# Altium footprint library Go With The Wind.PcbLib: 32 footprints (part 1 of 2)
Each footprint in its own frame and in the unit in brackets; x right, y up, seen from the top. Pads: shape width x height; smd on the part's side, far side on the other; paste and mask are expansions set on the pad; w line width, h text height; cw(c..) or ccw(c..) is an arc to the next point about the centre after c.
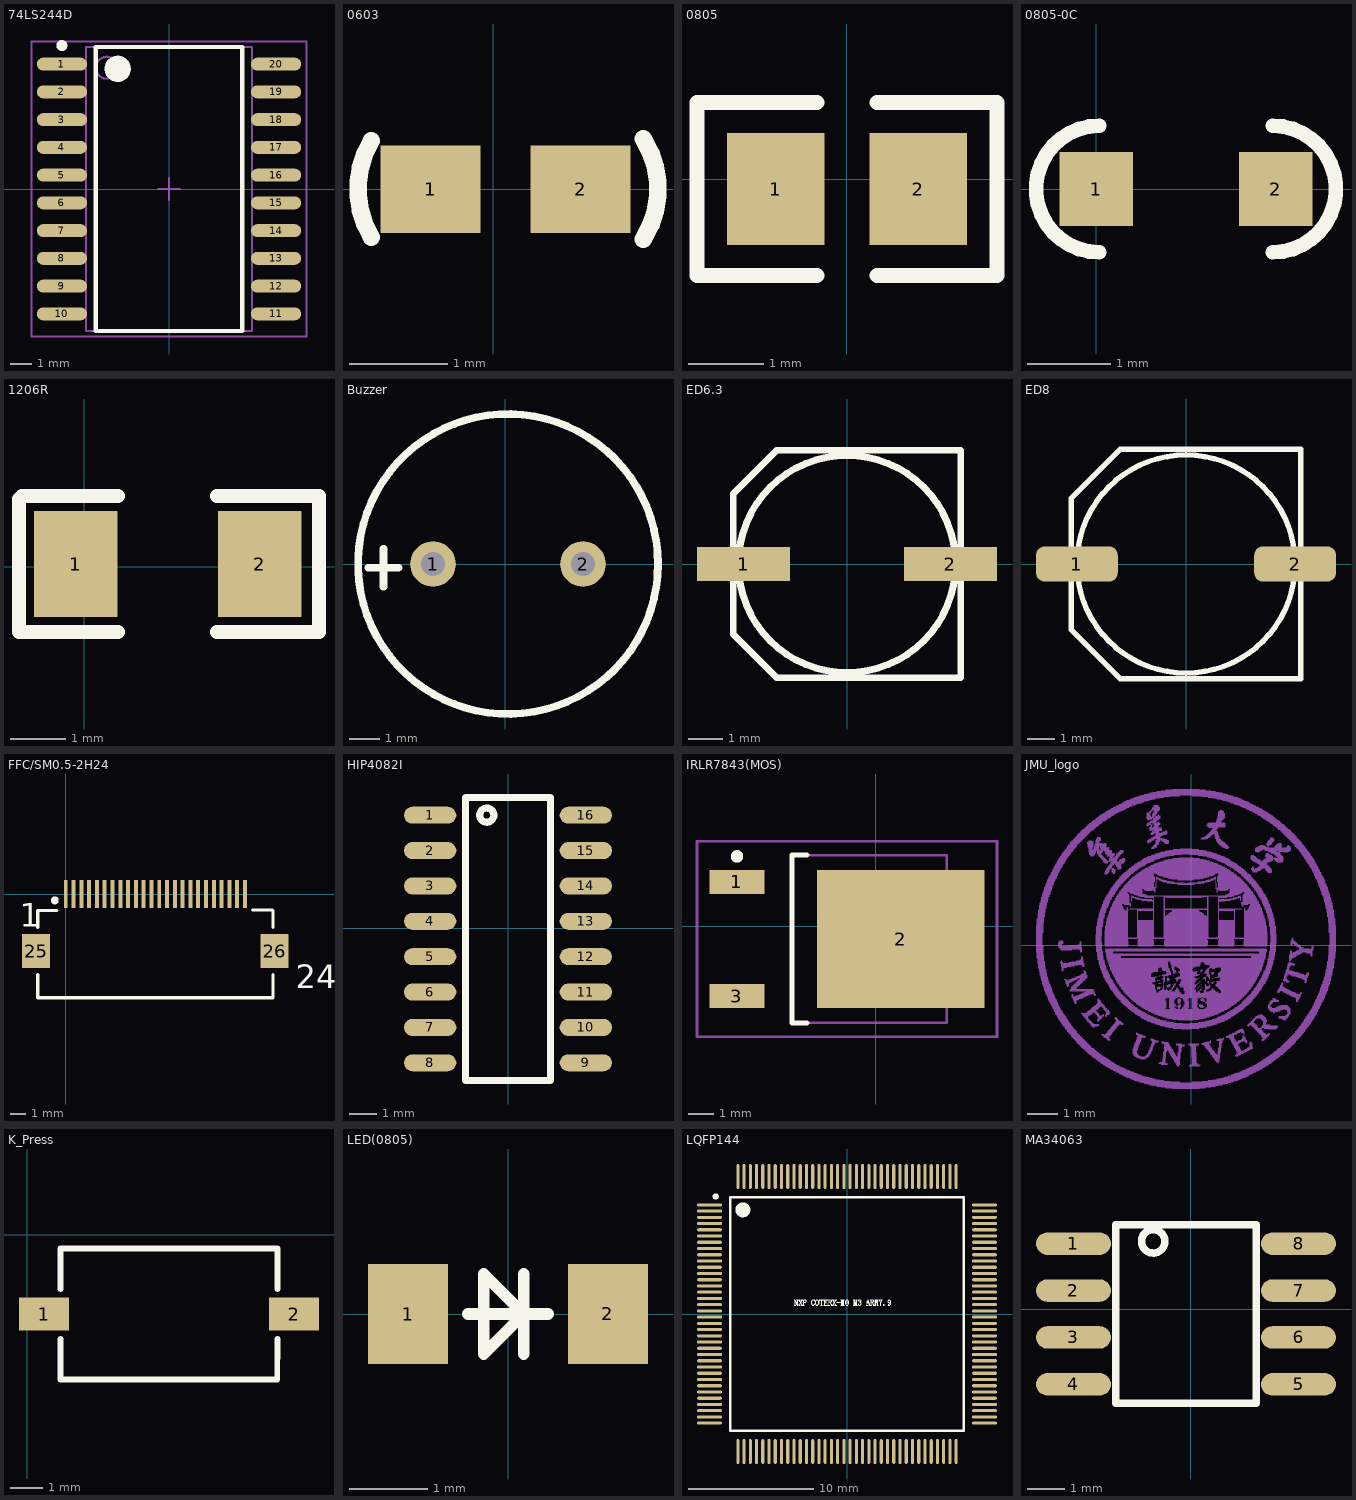
[diagram p0: the footprints below, top view; thin cyan lines are the x and y axes]

## 74LS244D [mm]
pads (20):
  oval 2.3x0.6 smd: 1(-4.9,5.715) 2(-4.9,4.445) 3(-4.9,3.175) 4(-4.9,1.905) 5(-4.9,0.635) 6(-4.9,-0.635) 7(-4.9,-1.905) 8(-4.9,-3.175) 9(-4.9,-4.445) 10(-4.9,-5.715) 11(4.9,-5.715) 12(4.9,-4.445) 13(4.9,-3.175) 14(4.9,-1.905) 15(4.9,-0.635) 16(4.9,0.635) 17(4.9,1.905) 18(4.9,3.175) 19(4.9,4.445) 20(4.9,5.715)
Top Overlay:
  circle w0.25: c-4.9,6.565 r0.125
  circle w0.6: c-2.35,5.5 r0.3
  lines w0.2: -3.35,-6.5 -3.35,6.5 3.35,6.5 3.35,-6.5 -3.35,-6.5
Mechanical 13:
  circle w0.1: c-2.85,5.55 r0.5
  lines w0.1: -3.8,-6.5 -3.8,6.5 3.8,6.5 3.8,-6.5 -3.8,-6.5
Mechanical 15:
  lines w0.1: -0.5,0 0.5,0 ; 0,-0.5 0,0.5 ; -6.3,-6.75 -6.3,6.75 6.3,6.75 6.3,-6.75 -6.3,-6.75
3D body: height 2.65, standoff 0.1, extent -3.8,-6.5 3.8,6.5

## 0603 [mil]
pads (2):
  rect 40x35 smd: 1(-25,0) 2(35,0)
Top Overlay:
  lines w7: -48.7,-19.22 cw(c-16.5,0) -48.7,19.22 ; 60.16,-20.1 ccw(c28.5,0) 60.16,20.1
3D body: height 22.05, standoff 0, extent -28.46,-15.74 38.47,15.75

## 0805 [mm]
pads (2):
  rect 1.3x1.5 smd: 1(-0.95,-0.127) 2(0.95,-0.127)
Top Overlay:
  lines w0.2: -0.4,-1.277 -2,-1.277 -2,1.023 -0.4,1.023 ; 0.4,-1.277 2,-1.277 2,1.023 0.4,1.023
3D body: height 0.55, standoff 0, extent -1,-0.757 1,0.503

## 0805-0C [mil]
pads (2):
  rect 35x35 smd: 1(0,0) 2(85,0)
Top Overlay:
  lines w7: 1.42,-30 cw(c1.42,0) 1.42,30 ; 83.58,-30 ccw(c83.58,0) 83.58,30
3D body: height 30.39, standoff -0.39, extent 3.15,-24.61 81.89,24.61

## 1206R [mil]
pads (2):
  rect 59.06x75 smd: 1(-6,2) 2(124,2)
Top Overlay:
  lines w10: 24,-46 -46,-46 -46,48 -44,50 24,50 ; 94,-46 166,-46 166,-2 166,50 94,50
3D body: height 33.46, standoff 0, extent -7.94,-32 123.94,36.11

## Buzzer [mil]
pads (2):
  round 60 hole 32 mask+0: 1(-95,0) 2(101.85,0)
Top Overlay:
  circle w10: c3.43,0 r196.85
  lines w10: -180,-5 -140,-5 ; -160,-30 -160,20
3D body: height 354.33, standoff -78.74, extent -236.21,-236.21 236.23,236.23

## ED6.3 [mm]
pads (2):
  rect 2.7x1 smd: 1(-3,0) 2(3,0)
Top Overlay:
  circle w0.2: c0,0 r3.15
  lines w0.2: -3.3,2.032 -3.3,-2.032 -2.032,-3.3 3.3,-3.3 3.3,3.3 -2.032,3.3 -3.287,2.045
3D body: height 5.2, standoff 0, extent -3.5,-3.302 3.5,3.298

## ED8 [mm]
pads (2):
  rrect50% 3x1.3 smd: 1(-4,0) 2(4,0)
Top Overlay:
  circle w0.2: c0,0 r4
  lines w0.2: -4.2,-2.413 -2.413,-4.2 4.2,-4.2 4.2,4.2 -2.413,4.2 -4.2,2.413 -4.2,-2.413
3D body: height 10.5, standoff 0, extent -4.521,-4.216 4.479,4.084

## FFC/SM0.5-2H24 [mil]
pads (26):
  rect 10x70 smd: 1(0,0) 2(19.68,0) 3(39.37,0) 4(59.06,0) 5(78.74,0) 6(98.43,0) 7(118.11,0) 8(137.8,0) 9(157.48,0) 10(177.17,0) 11(196.85,0) 12(216.54,0) 13(236.22,0) 14(255.91,0) 15(275.59,0) 16(295.28,0) 17(314.96,0) 18(334.65,0) 19(354.33,0) 20(374.02,0) 21(393.7,0) 22(413.39,0) 23(433.07,0) 24(452.76,0)
  rect 70.87x86.61 smd: 25(-74.8,-143.98) 26(527.56,-143.98)
Top Overlay:
  circle w9.84: c-27.56,-16.02 r4.92
  lines w7.87: -70.87,-203.03 -70.87,-262.09 523.62,-262.09 523.62,-203.03 ; -70.87,-84.92 -70.87,-41.61 -21.65,-41.61 ; 472.44,-40.63 521.65,-40.63 ; 523.62,-84.92 523.62,-41.61
  text "1" at -116.62,-82 h59.06
  text "24" at 580.71,-237.48 h59.06

## HIP4082I [mil]
pads (16):
  oval 74x24 smd: 1(-110,160) 2(-110,110) 3(-110,60) 4(-110,10) 5(-110,-40) 6(-110,-90) 7(-110,-140) 8(-110,-190) 9(110,-190) 10(110,-140) 11(110,-90) 12(110,-40) 13(110,10) 14(110,60) 15(110,110) 16(110,160)
Top Overlay:
  circle w10: c-30,160 r10
  lines w10: -60,-215 60,-215 60,185 -60,185 -60,-215
3D body: height 68.9, standoff 0, extent -115,-207 113.35,178.83

## IRLR7843(MOS) [mm]
pads (3):
  rect 2.2x0.95 smd: 1(-5.543,1.772) 3(-5.543,-2.788)
  rect 6.7x5.5 smd: 2(1.007,-0.508)
Top Overlay:
  circle w0.25: c-5.543,2.797 r0.125
  lines w0.2: -2.743,-3.858 -3.343,-3.858 -3.343,2.842 -2.743,2.842
Mechanical 13:
  lines w0.1: -3.343,-3.858 2.857,-3.858 2.857,2.842 -3.343,2.842 -3.343,-3.858
Mechanical 15:
  lines w0.1: -1.643,-0.508 -0.643,-0.508 ; -1.143,-1.008 -1.143,-0.008 ; -7.143,-4.408 4.857,-4.408 4.857,3.392 -7.143,3.392 -7.143,-4.408
3D body: height 2.39, standoff -0.02, extent -6.043,-3.778 3.895,2.762

## JMU_logo [mm]
Top Solder:
  drawing of 32 lines, arcs and shapes, not listed

## K_Press [mil]
pads (2):
  rect 60x40 smd: 1(20,-95) 2(320,-95)
Top Overlay:
  lines w7: 39.84,-125 39.84,-173.74 299.9,-173.74 300.16,-125 ; 39.84,-65 39.84,-16.26 300,-16.26 300,-65
3D body: height 98.43, standoff 0, extent 49.93,-166.83 290.09,-21.16
3D body: height 47.24, standoff 31.5, extent 120,-125 220,-65

## LED(0805) [mil]
pads (2):
  rect 40x50 smd: 1(-50,0) 2(50,0)
Top Overlay:
  lines w5.91: -20,0 20,0 ; 7.87,-20 7.87,20 ; -12.13,-20 -12.13,20 7.87,0 -12.13,-20
3D body: height 43.31, standoff 0, extent -36.61,-24.21 42.91,25

## LQFP144 [mm]
pads (146):
  oval 2x0.25 smd: 1(-11.025,8.75) 2(-11.025,8.25) 3(-11.025,7.75) 4(-11.025,7.25) 5(-11.025,6.75) 6(-11.025,6.25) 7(-11.025,5.75) 8(-11.025,5.25) 9(-11.025,4.75) 10(-11.025,4.25) 11(-11.025,3.75) 12(-11.025,3.25) 13(-11.025,2.75) 14(-11.025,2.25) 15(-11.025,1.75) 16(-11.025,1.25) 17(-11.025,0.75) 18(-11.025,0.25) 19(-11.025,-0.25) 20(-11.025,-0.75) 21(-11.025,-1.25) 22(-11.025,-1.75) 23(-11.025,-2.25) 24(-11.025,-2.75) 25(-11.025,-3.25) 26(-11.025,-3.75) 27(-11.025,-4.25) 28(-11.025,-4.75) 29(-11.025,-5.25) 30(-11.025,-5.75) 31(-11.025,-6.25) 32(-11.025,-6.75) 33(-11.025,-7.25) 34(-11.025,-7.75) 35(-11.025,-8.25) 36(-11.025,-8.75) 73(11.025,-8.75) 74(11.025,-8.25) 75(11.025,-7.75) 76(11.025,-7.25) 77(11.025,-6.75) 78(11.025,-6.25) 79(11.025,-5.75) 80(11.025,-5.25) 81(11.025,-4.75) 82(11.025,-4.25) 83(11.025,-3.75) 84(11.025,-3.25) 85(11.025,-2.75) 86(11.025,-2.25) 87(11.025,-1.75) 88(11.025,-1.25) 89(11.025,-0.75) 90(11.025,-0.25) 91(11.025,0.25) 92(11.025,0.75) 93(11.025,1.25) 94(11.025,1.75) 95(11.025,2.25) 96(11.025,2.75) 97(11.025,3.25) 98(11.025,3.75) 99(11.025,4.25) 100(11.025,4.75) 101(11.025,5.25) 102(11.025,5.75) 103(11.025,6.25) 104(11.025,6.75) 105(11.025,7.25) 106(11.025,7.75) 107(11.025,8.25) 108(11.025,8.75)
  oval 0.25x2 smd: 37(-8.75,-11.025) 38(-8.25,-11.025) 39(-7.75,-11.025) 40(-7.25,-11.025) 41(-6.75,-11.025) 42(-6.25,-11.025) 43(-5.75,-11.025) 44(-5.25,-11.025) 45(-4.75,-11.025) 46(-4.25,-11.025) 47(-3.75,-11.025) 48(-3.25,-11.025) 49(-2.75,-11.025) 50(-2.25,-11.025) 51(-1.75,-11.025) 52(-1.25,-11.025) 53(-0.75,-11.025) 54(-0.25,-11.025) 55(0.25,-11.025) 56(0.75,-11.025) 57(1.25,-11.025) 58(1.75,-11.025) 59(2.25,-11.025) 60(2.75,-11.025) 61(3.25,-11.025) 62(3.75,-11.025) 63(4.25,-11.025) 64(4.75,-11.025) 65(5.25,-11.025) 66(5.75,-11.025) 67(6.25,-11.025) 68(6.75,-11.025) 69(7.25,-11.025) 70(7.75,-11.025) 71(8.25,-11.025) 72(8.75,-11.025) 109(8.75,11.025) 110(8.25,11.025) 111(7.75,11.025) 112(7.25,11.025) 113(6.75,11.025) 114(6.25,11.025) 115(5.75,11.025) 116(5.25,11.025) 117(4.75,11.025) 118(4.25,11.025) 119(3.75,11.025) 120(3.25,11.025) 121(2.75,11.025) 122(2.25,11.025) 123(1.75,11.025) 124(1.25,11.025) 125(0.75,11.025) 126(0.25,11.025) 127(-0.25,11.025) 128(-0.75,11.025) 129(-1.25,11.025) 130(-1.75,11.025) 131(-2.25,11.025) 132(-2.75,11.025) 133(-3.25,11.025) 134(-3.75,11.025) 135(-4.25,11.025) 136(-4.75,11.025) 137(-5.25,11.025) 138(-5.75,11.025) 139(-6.25,11.025) 140(-6.75,11.025) 141(-7.25,11.025) 142(-7.75,11.025) 143(-8.25,11.025) 144(-8.75,11.025)
  oval 0x2 smd: 55(0.25,-11.025) 58(1.75,-11.025)
Top Overlay:
  drawing of 357 lines, arcs and shapes, not listed
3D body: height 1.1, standoff 0, extent -11.079,-10.981 10.938,11.036

## MA34063 [mil]
pads (8):
  oval 80x24 smd: 1(-125,70) 2(-125,20) 3(-125,-30) 4(-125,-80) 5(115,-80) 6(115,-30) 7(115,20) 8(115,70)
Top Overlay:
  circle w8: c-40,72.5 r12.5
  lines w8: -80,-100 -80,90 70,90 70,-100 -80,-100
3D body: height 61.02, standoff -1.97, extent -122.91,-101 112.91,91.91